# EAGLE library part CON-VHDCI-68PIN-MALE (library con-vhdci-68pin-male)
VHDCI MALE 68 PIN CONNECTOR Used to connect two boards with VHDCI connectors. 40 Pin I/O 20 Pins connected to ground 4 Pins Connected to "Vu" 4 Pins Connected to "VCC" Developed by CERG
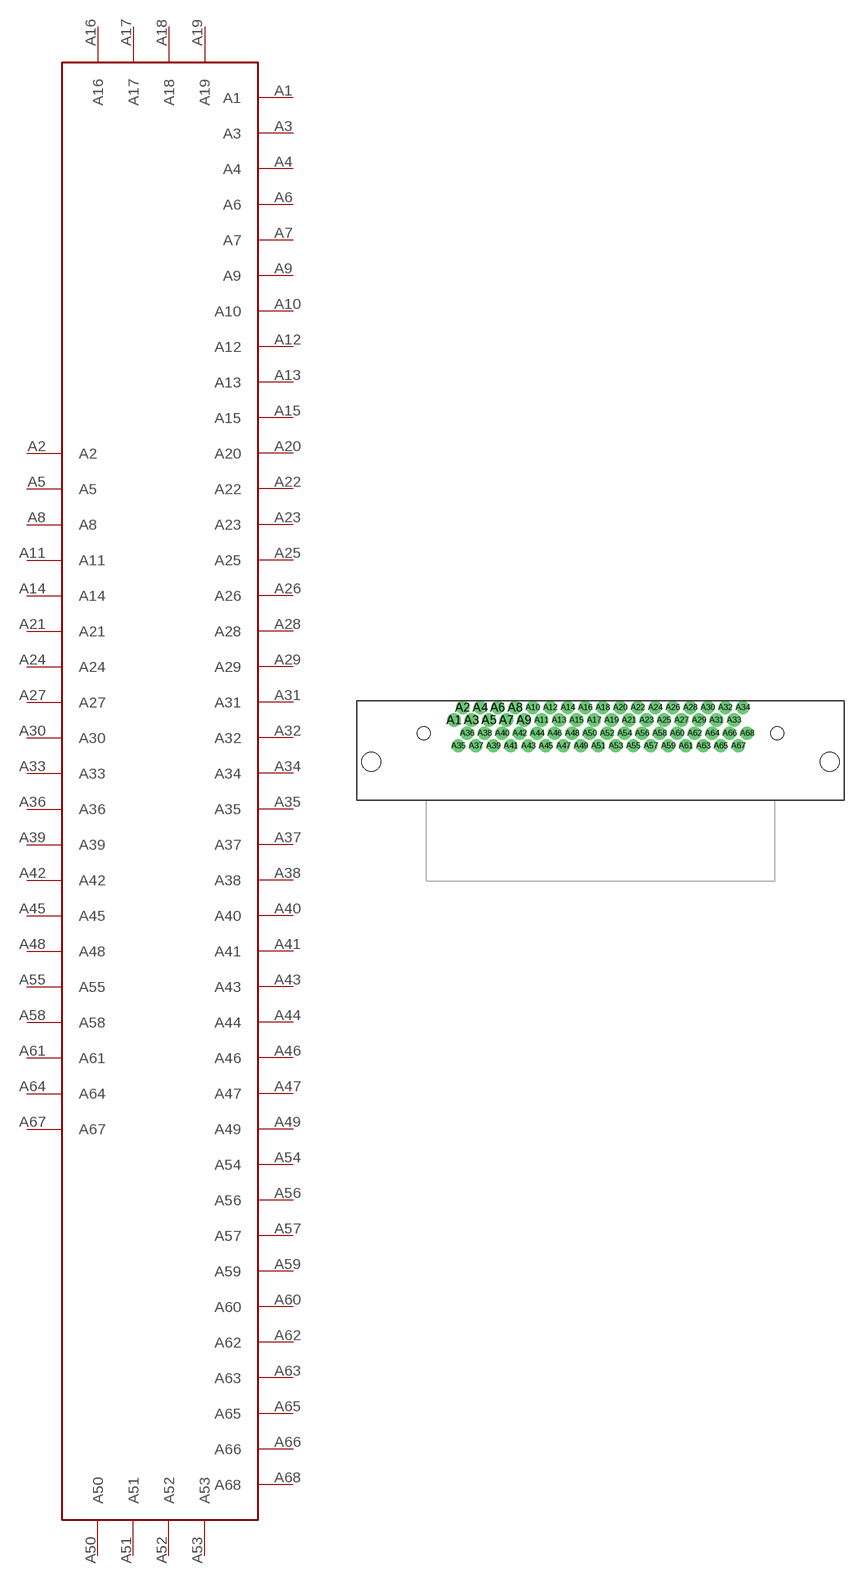
[diagram p0: symbol with the pads of CON-VHDCI-68PIN-MALE; footprint CON-VHDCI-68PIN-MALE]

Designator prefix -

## CON-VHDCI-68PIN-MALE  [CON-VHDCI-68PIN-MALE]
A1  A1
A2  A2
A3  A3
A4  A4
A5  A5
A6  A6
A7  A7
A8  A8
A9  A9
A10  A10
A11  A11
A12  A12
A13  A13
A14  A14
A15  A15
A16  A16
A17  A17
A18  A18
A19  A19
A20  A20
A21  A21
A22  A22
A23  A23
A24  A24
A25  A25
A26  A26
A27  A27
A28  A28
A29  A29
A30  A30
A31  A31
A32  A32
A33  A33
A34  A34
A35  A35
A36  A36
A37  A37
A38  A38
A39  A39
A40  A40
A41  A41
A42  A42
A43  A43
A44  A44
A45  A45
A46  A46
A47  A47
A48  A48
A49  A49
A50  A50
A51  A51
A52  A52
A53  A53
A54  A54
A55  A55
A56  A56
A57  A57
A58  A58
A59  A59
A60  A60
A61  A61
A62  A62
A63  A63
A64  A64
A65  A65
A66  A66
A67  A67
A68  A68

## Footprint CON-VHDCI-68PIN-MALE (pad centres in mm)
drill 0.7 pad 0.813: A1 -13.985,5.86; A2 -13.185,7.01; A3 -12.385,5.86; A4 -11.585,7.01; A5 -10.785,5.86; A6 -9.985,7.01; A7 -9.185,5.86; A8 -8.385,7.01; A9 -7.585,5.86; A10 -6.785,7.01; A11 -5.985,5.86; A12 -5.185,7.01; A13 -4.385,5.86; A14 -3.585,7.01; A15 -2.785,5.86; A16 -1.985,7.01; A17 -1.185,5.86; A18 -0.385,7.01; A19 0.415,5.86; A20 1.215,7.01; A21 2.015,5.86; A22 2.815,7.01; A23 3.615,5.86; A24 4.415,7.01; A25 5.215,5.86; A26 6.015,7.01; A27 6.815,5.86; A28 7.615,7.01; A29 8.415,5.86; A30 9.215,7.01; A31 10.015,5.86; A32 10.815,7.01; A33 11.615,5.86; A34 12.415,7.01; A35 -13.585,3.51; A36 -12.785,4.66; A37 -11.985,3.51; A38 -11.185,4.66; A39 -10.385,3.51; A40 -9.585,4.66; A41 -8.785,3.51; A42 -7.985,4.66; A43 -7.185,3.51; A44 -6.385,4.66; A45 -5.585,3.51; A46 -4.785,4.66; A47 -3.985,3.51; A48 -3.185,4.66; A49 -2.385,3.51; A50 -1.585,4.66; A51 -0.785,3.51; A52 0.015,4.66; A53 0.815,3.51; A54 1.615,4.66; A55 2.415,3.51; A56 3.215,4.66; A57 4.015,3.51; A58 4.815,4.66; A59 5.615,3.51; A60 6.415,4.66; A61 7.215,3.51; A62 8.015,4.66; A63 8.815,3.51; A64 9.615,4.66; A65 10.415,3.51; A66 11.215,4.66; A67 12.015,3.51; A68 12.815,4.66
hole 1.2 at -16.76,4.66
hole 1.2 at 15.59,4.66
hole 1.75 at -21.535,2.035
hole 1.75 at 20.365,2.035